# EAGLE library part 7W2-M (library conec)
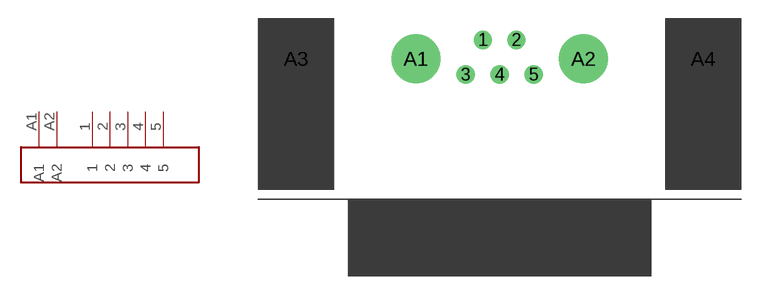
[diagram p0: symbol with the pads of 7W2-M; footprint 7W2-M]

Designator prefix -

## 7W2-M  [7W2-M]
1  1
2  2
3  3
4  4
5  5
A1  A1
A2  A2

## Footprint 7W2-M (pad centres in mm)
drill 1: 1 -1.37,1.54; 2 1.37,1.54; 3 -2.77,-1.3; 4 0,-1.3; 5 2.77,-1.3
drill 3: A1 -6.86,0; A2 6.86,0; A3 -16.65,0; A4 16.65,0